# Altium footprint library PcbLib1.PcbLib: 8 footprints
Each footprint in its own frame and in the unit in brackets; x right, y up, seen from the top. Pads: shape width x height; smd on the part's side, far side on the other; paste and mask are expansions set on the pad; w line width, h text height; cw(c..) or ccw(c..) is an arc to the next point about the centre after c.
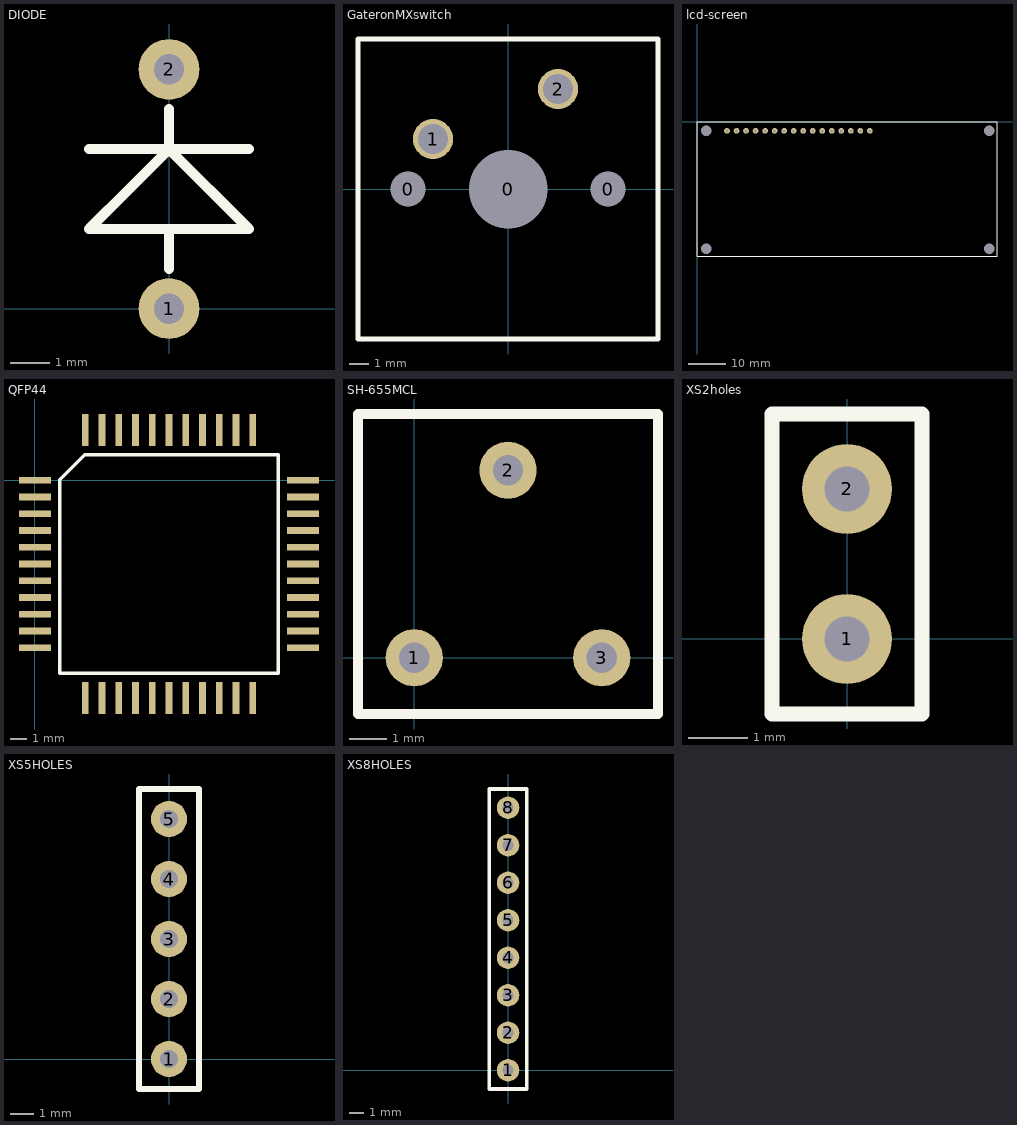
[diagram p0: the footprints below, top view; thin cyan lines are the x and y axes]

## DIODE [mil]
pads (2):
  round 60 hole 30: 1(0,0) 2(0,236.22)
Top Overlay:
  lines w10: -78.74,157.48 78.74,157.48 ; 0,39.37 0,78.74 ; 0,196.85 0,157.48 ; -39.37,118.11 0,157.48 ; -39.37,118.11 -39.37,118.11 ; -39.37,118.11 -78.74,78.74 -39.37,78.74 0,78.74 ; 0,78.74 78.74,78.74 0,157.48

## GateronMXswitch [mil]
pads (5):
  round 60 hole 70: 0(-200,0) 0(200,0)
  round 60 hole 157: 0(0,0)
  round 80 hole 60: 1(-150,100) 2(100,200)
Top Overlay:
  lines w10: -300,-300 -300,300 300,300 300,-300 -300,-300

## lcd-screen [mil] "qapass1602a"
pads (20):
  round 60 hole 110.24: 0(98.43,-1334.65) 0(98.43,-98.43) 0(3066.93,-1334.65) 0(3066.93,-98.43)
  round 60 hole 30: 1(1614.96,-98.43) 2(1514.96,-98.43) 3(1414.96,-98.43) 4(1314.96,-98.43) 5(1214.96,-98.43) 6(1114.96,-98.43) 7(1014.96,-98.43) 8(914.96,-98.43) 9(814.96,-98.43) 10(714.96,-98.43) 11(614.96,-98.43) 12(514.96,-98.43) 13(414.96,-98.43) 14(314.96,-98.43) 15(1714.96,-98.43) 16(1814.96,-98.43)
Top Overlay:
  lines w10: 0,-1417.32 0,0 3149.61,0 3149.61,-1417.32 1732.28,-1417.32 0,-1417.32

## QFP44 [mm]
pads (44):
  rect 1.9x0.406 smd: 1(0,0) 2(0,-1) 3(0,-2) 4(0,-3) 5(0,-4) 6(0,-5) 7(0,-6) 8(0,-7) 9(0,-8) 10(0,-9) 11(0,-10) 23(15.994,-10) 24(15.994,-9) 25(15.994,-8) 26(15.994,-7) 27(15.994,-6) 28(15.994,-5) 29(15.994,-4) 30(15.994,-3) 31(15.994,-2) 32(15.994,-1) 33(15.994,0)
  rect 0.406x1.9 smd: 12(2.997,-12.997) 13(3.997,-12.997) 14(4.997,-12.997) 15(5.997,-12.997) 16(6.997,-12.997) 17(7.997,-12.997) 18(8.997,-12.997) 19(9.997,-12.997) 20(10.997,-12.997) 21(11.997,-12.997) 22(12.997,-12.997) 34(12.997,2.997) 35(11.997,2.997) 36(10.997,2.997) 37(9.997,2.997) 38(8.997,2.997) 39(7.997,2.997) 40(6.997,2.997) 41(5.997,2.997) 42(4.997,2.997) 43(3.997,2.997) 44(2.997,2.997)
Top Overlay:
  lines w0.2: 1.485,-11.512 1.485,0.027 2.97,1.512 14.509,1.512 14.509,-11.512 1.485,-11.512

## SH-655MCL [mil]
pads (3):
  round 60 hole 31.5: 1(0,0) 2(98.43,196.85) 3(196.85,0)
Top Overlay:
  lines w10: -59.06,-59.06 -59.06,255.91 255.91,255.91 255.91,-59.06 -59.06,-59.06

## XS2holes [mil]
pads (2):
  round 60 hole 30: 1(0,0) 2(0,100)
Top Overlay:
  lines w10: -50,-50 -50,150 50,150 50,-50 -50,-50

## XS5HOLES [mil]
pads (5):
  round 60 hole 30: 1(0,0) 2(0,100) 3(0,200) 4(0,300) 5(0,400)
Top Overlay:
  lines w10: -50,-50 -50,450 50,450 50,-50 -50,-50

## XS8HOLES [mil]
pads (8):
  round 60 hole 30: 1(0,0) 2(0,100) 3(0,200) 4(0,300) 5(0,400) 6(0,500) 7(0,600) 8(0,700)
Top Overlay:
  lines w10: -50,-50 -50,750 50,750 50,-50 -50,-50